# Altium footprint library CR1025SM.PcbLib: 1 footprints
Each footprint in its own frame and in the unit in brackets; x right, y up, seen from the top. Pads: shape width x height; smd on the part's side, far side on the other; paste and mask are expansions set on the pad; w line width, h text height; cw(c..) or ccw(c..) is an arc to the next point about the centre after c.
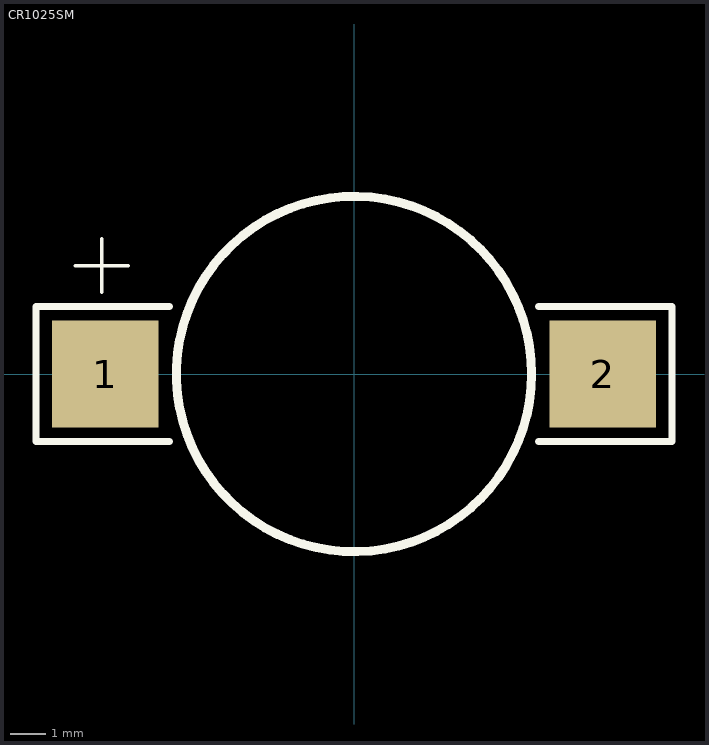
[diagram p0: the footprint, top view; thin cyan lines are the x and y axes]

## CR1025SM [mm]
pads (2):
  rect 3x3 smd: 1(-7,0) 2(7,0)
Top Overlay:
  circle w0.254: c0,0 r5
  lines w0.1: -7.85,3.05 -6.35,3.05 ; -7.1,2.3 -7.1,3.8
  lines w0.2: -5.2,-1.9 -8.957,-1.9 -8.957,1.9 -5.2,1.9 ; 5.2,-1.9 8.957,-1.9 8.957,1.9 5.2,1.9
3D body: height 0.15, standoff 0, extent 5.97,-1.5 7.97,1.5
3D body "CR1025 3V Cell.SLDPRT": height 2.65, standoff 0.15, extent -5,-5 5,5
3D body: height 2.65, standoff 0, extent 5.879,-1.5 6.029,1.5
3D body: height 2.8, standoff 2.65, extent -1.96,-1.5 6.04,1.5
3D body: height 0.15, standoff 0, extent -8.1,-1.5 1.8,1.5